# EAGLE library part MAX883 (library andereBauteile)
MAX883 Low Dropout Voltage Regulator Imax 200 mA
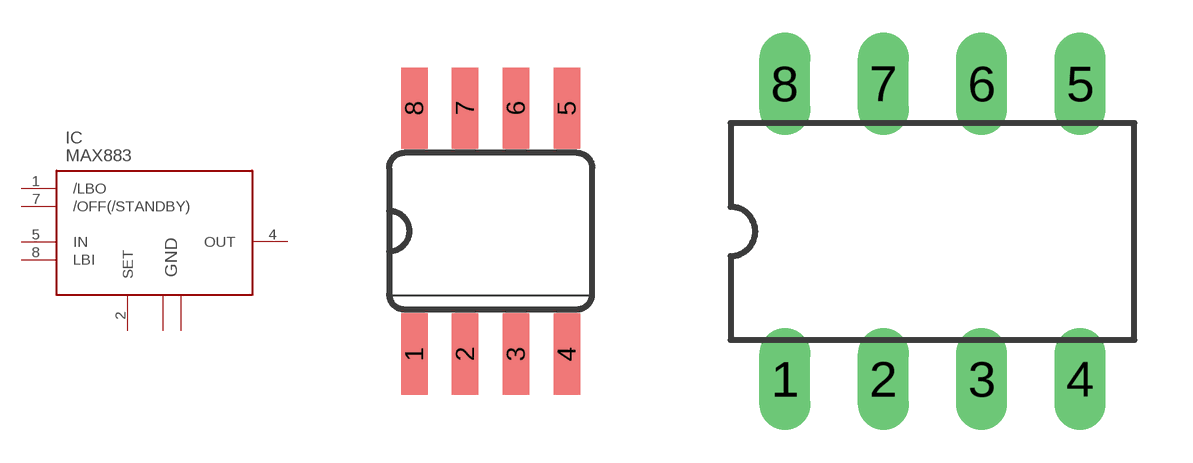
[diagram p7: symbol with the pads of SO08; footprints SO08, DIL08]

Designator prefix IC

## MAX883CSA  [SO08]
1  /LBO
2  SET
3  GND
4  OUT
5  IN
6  GND
7  /OFF(/STANDBY)
8  LBI

## MAX883CPA  [DIL08]
Pads as for SO08

## Footprint SO08 (pad centres in mm)
smd 0.66 x 2.032: 1 -1.905,-3.073; 2 -0.635,-3.073; 3 0.635,-3.073; 4 1.905,-3.073; 5 1.905,3.073; 6 0.635,3.073; 7 -0.635,3.073; 8 -1.905,3.073

## Footprint DIL08 (pad centres in mm)
drill 0.813 long: 1 -3.81,-3.81; 2 -1.27,-3.81; 3 1.27,-3.81; 4 3.81,-3.81; 5 3.81,3.81; 6 1.27,3.81; 7 -1.27,3.81; 8 -3.81,3.81